# EAGLE library part MCP2551P (library EE445L)
MCP2551p CAN interface driver
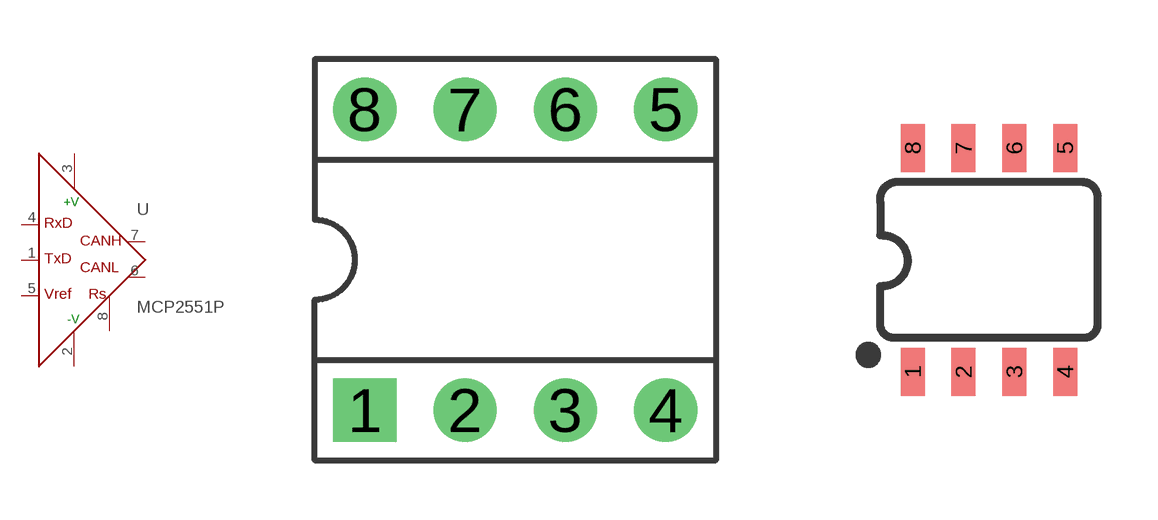
[diagram p31: symbol with the pads of DIL08; footprints DIL08, SO08]

Designator prefix -

## MCP2551P  [DIL08]
1  TXD  out
2  VSS  pwr
3  VDD  pwr
4  RXD  in
5  VREF  pas
6  CANL
7  CANH
8  RS  pas

## MCP2551PSOIC  [SO08]
Pads as for DIL08

## Footprint DIL08 (pad centres in mm)
Dual In Line 0.8mm holes, 2.54mm=100mil spacing
drill 1 pad 1.6 square: 1 -3.81,-3.81
drill 1 pad 1.6: 2 -1.27,-3.81; 3 1.27,-3.81; 4 3.81,-3.81; 5 3.81,3.81; 6 1.27,3.81; 7 -1.27,3.81; 8 -3.81,3.81

## Footprint SO08 (pad centres in mm)
SOIC, 0.15 inch width
smd 0.6 x 1.2: 1 -1.905,-2.8; 2 -0.635,-2.8; 3 0.635,-2.8; 4 1.905,-2.8; 5 1.905,2.8; 6 0.635,2.8; 7 -0.635,2.8; 8 -1.905,2.8